# Altium integrated library SN74HCT14D_INVERTER.IntLib: 1 symbol
Pins are listed as number, name and electrical type; pins without a type are passive.

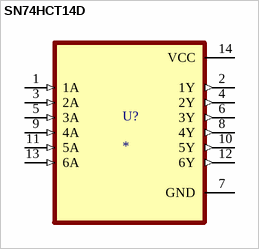
[diagram p0: symbol SN74HCT14D]

## SN74HCT14D
designator U?
6-ch, 4.5-V to 5.5-V inverters with Schmitt-Trigger inputs; MF: Texas Instruments; MP: SN74HCT14D; SnapEDA_Link: https://www.snapeda.com/parts/SN74HCT14D/Texas+Instruments/view-part/?ref=snap; Package: SOIC-14 Texas Instruments; Value: *; Check_prices: https://www.snapeda.com/parts/SN74HCT14D/Texas+Instruments/view-part/?ref=eda
footprint SOIC127P600X175-14N
pins: 1 1A (in), 2 1Y (out), 3 2A (in), 4 2Y (out), 5 3A (in), 6 3Y (out), 7 GND (power), 8 4Y (out), 9 4A (in), 10 5Y (out), 11 5A (in), 12 6Y (out), 13 6A (in), 14 VCC (power)